# Altium schematic symbol library Multiplexer.SchLib: 1 symbol
Pins are listed as number, name and electrical type; pins without a type are passive.

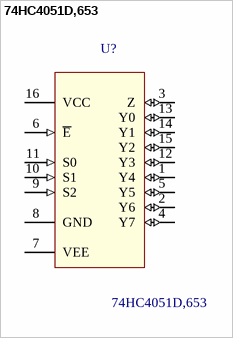
[diagram p0: symbol 74HC4051D,653]

## 74HC4051D,653
designator U?
74HC Series 10V 8-Channel Analog Multiplexer/Demultiplexer - SOIC-16; MF: Nexperia USA; Package: SO-16 Nexperia; Price: None; SnapEDA_Link: https://www.snapeda.com/parts/74HC4051D%2C653/Nexperia%20USA%20Inc./view-part/?ref=snap; Availability: Unavailable; MP: 74HC4051D,653; Value: *
footprint PCBComponent_1
footprint SOIC127P600X175-16N
pins: 1 Y4 (io), 2 Y6 (io), 3 Z (io), 4 Y7 (io), 5 Y5 (io), 6 ~{E} (in), 7 VEE (power), 8 GND, 9 S2 (in), 10 S1 (in), 11 S0 (in), 12 Y3 (io), 13 Y0 (io), 14 Y1 (io), 15 Y2 (io), 16 VCC (power)